# Altium footprint library PCB - RESISTOR - CHIP - VISHAY WSLF2512 0.0003OHM.PCBLIB: 1 footprints
Each footprint in its own frame and in the unit in brackets; x right, y up, seen from the top. Pads: shape width x height; smd on the part's side, far side on the other; paste and mask are expansions set on the pad; w line width, h text height; cw(c..) or ccw(c..) is an arc to the next point about the centre after c.
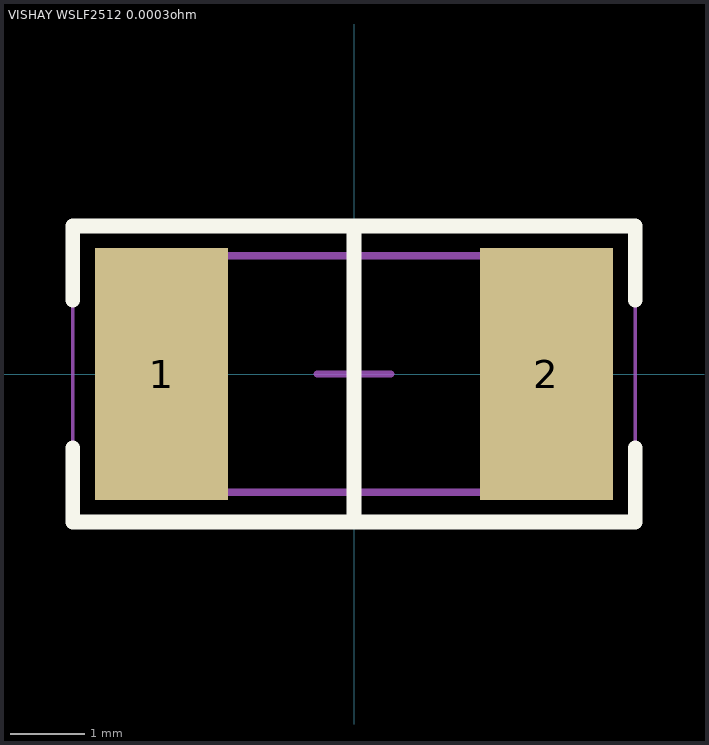
[diagram p0: the footprint, top view; thin cyan lines are the x and y axes]

## VISHAY WSLF2512 0.0003ohm [mm] "Chip Resistor, 2-Leads, Body 6.40x3.20mm"
height 0.38
pads (2):
  rect 1.8x3.4 smd: 1(-2.6,0) 2(2.6,0)
Top Overlay:
  lines w0.2: -3.8,-1 -3.8,-2 3.8,-2 3.8,-1 ; -3.8,1 -3.8,2 3.8,2 3.8,1 ; 0,-2 0,2
Mechanical 13:
  lines w0.1: -3.3,-1.6 -3.3,1.6 3.3,1.6 3.3,-1.6 -3.3,-1.6
Mechanical 15:
  lines w0.05: -3.8,-1.95 -3.8,1.95 3.8,1.95 3.8,-1.95 -3.8,-1.95
  lines w0.1: -0.5,0 0.5,0 ; 0,-0.5 0,0.5
3D body "WSLF2512 (0.0003 ohm).step": height 1.33, standoff 0, extent -3.175,-1.588 3.175,1.587